# Altium footprint library Atmel_By_element14_Batch_1-00.PCBLIB: 46 footprints (part 3 of 3)
Each footprint in its own frame and in the unit in brackets; x right, y up, seen from the top. Pads: shape width x height; smd on the part's side, far side on the other; paste and mask are expansions set on the pad; w line width, h text height; cw(c..) or ccw(c..) is an arc to the next point about the centre after c.
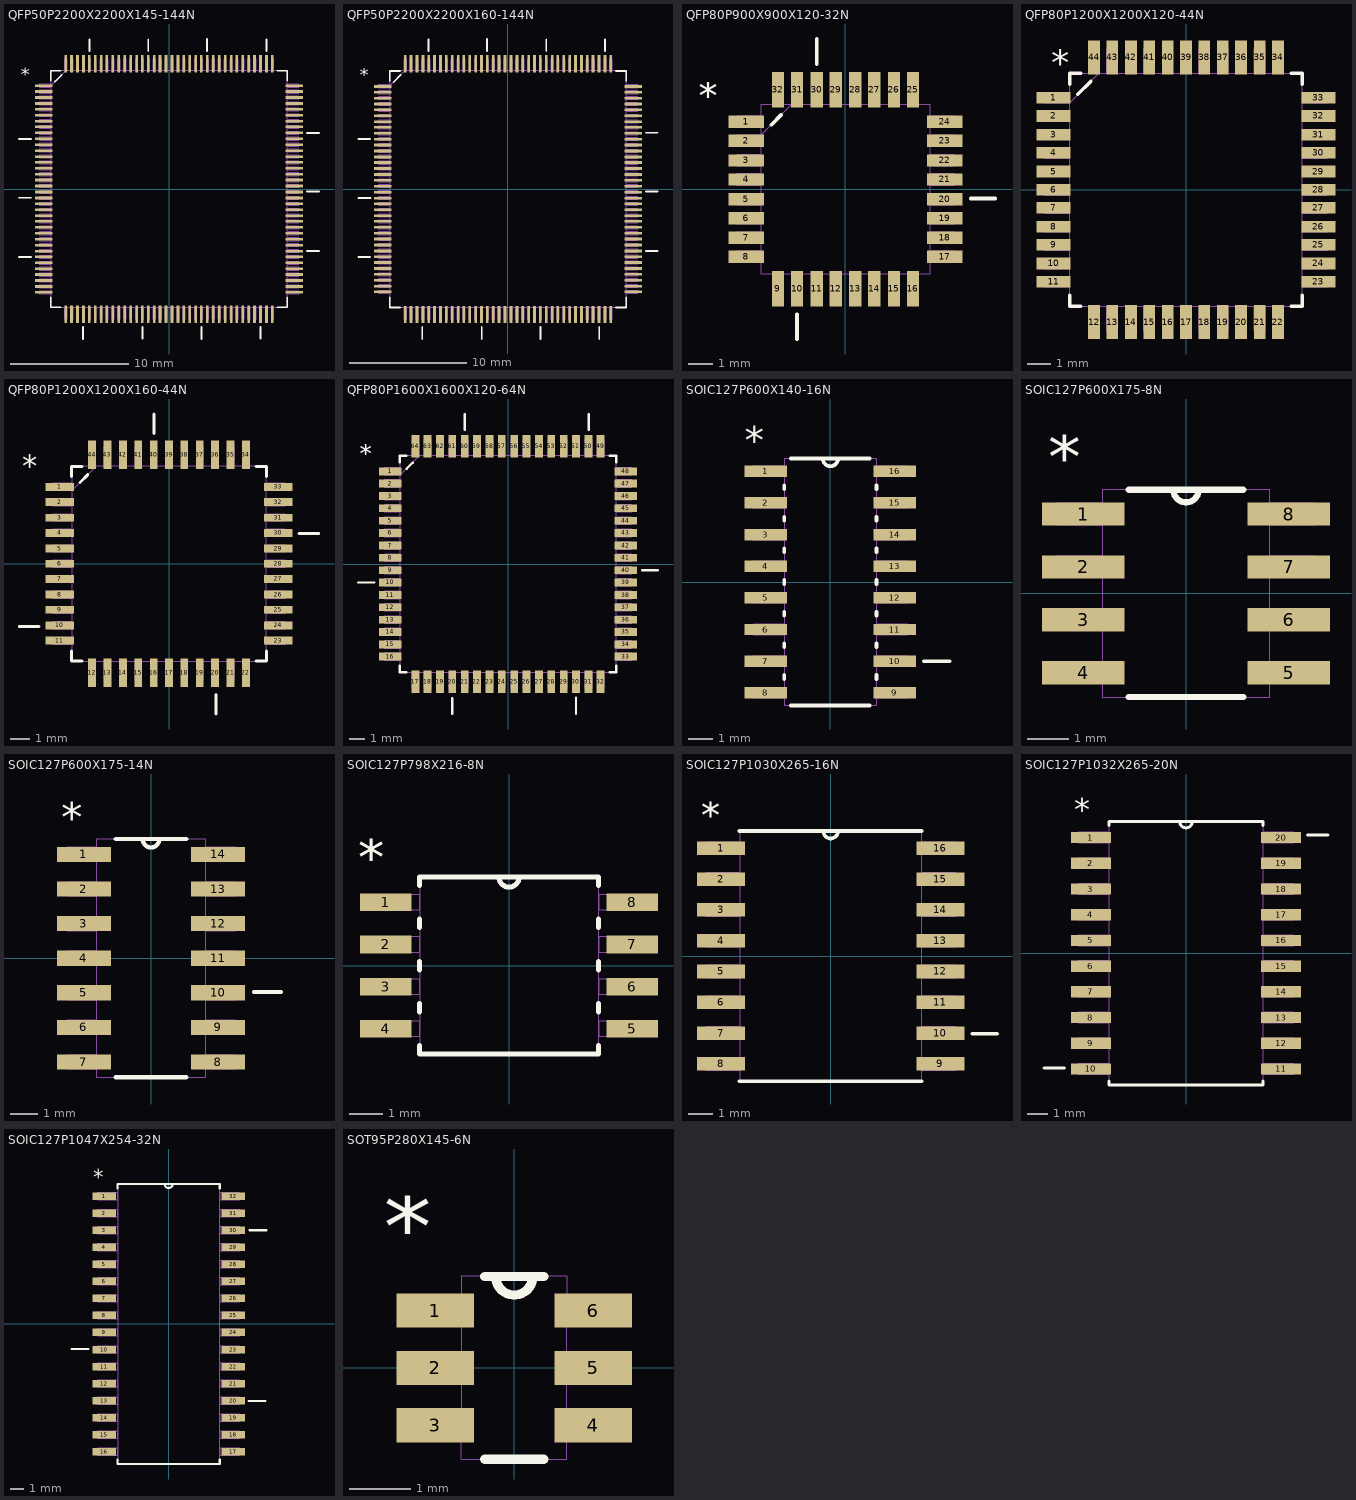
[diagram p2: the footprints below, top view; thin cyan lines are the x and y axes]

## QFP50P2200X2200X145-144N [mil]
pads (144):
  rect 58x9 smd: 1(-418,344) 2(-418,325) 3(-418,305) 4(-418,285) 5(-418,266) 6(-418,246) 7(-418,226) 8(-418,207) 9(-418,187) 10(-418,167) 11(-418,148) 12(-418,128) 13(-418,108) 14(-418,89) 15(-418,69) 16(-418,49) 17(-418,30) 18(-418,10) 19(-418,-10) 20(-418,-30) 21(-418,-49) 22(-418,-69) 23(-418,-89) 24(-418,-108) 25(-418,-128) 26(-418,-148) 27(-418,-167) 28(-418,-187) 29(-418,-207) 30(-418,-226) 31(-418,-246) 32(-418,-266) 33(-418,-285) 34(-418,-305) 35(-418,-325) 36(-418,-344) 73(418,-344) 74(418,-325) 75(418,-305) 76(418,-285) 77(418,-266) 78(418,-246) 79(418,-226) 80(418,-207) 81(418,-187) 82(418,-167) 83(418,-148) 84(418,-128) 85(418,-108) 86(418,-89) 87(418,-69) 88(418,-49) 89(418,-30) 90(418,-10) 91(418,10) 92(418,30) 93(418,49) 94(418,69) 95(418,89) 96(418,108) 97(418,128) 98(418,148) 99(418,167) 100(418,187) 101(418,207) 102(418,226) 103(418,246) 104(418,266) 105(418,285) 106(418,305) 107(418,325) 108(418,344)
  rect 9x58 smd: 37(-344,-418) 38(-325,-418) 39(-305,-418) 40(-285,-418) 41(-266,-418) 42(-246,-418) 43(-226,-418) 44(-207,-418) 45(-187,-418) 46(-167,-418) 47(-148,-418) 48(-128,-418) 49(-108,-418) 50(-89,-418) 51(-69,-418) 52(-49,-418) 53(-30,-418) 54(-10,-418) 55(10,-418) 56(30,-418) 57(49,-418) 58(69,-418) 59(89,-418) 60(108,-418) 61(128,-418) 62(148,-418) 63(167,-418) 64(187,-418) 65(207,-418) 66(226,-418) 67(246,-418) 68(266,-418) 69(285,-418) 70(305,-418) 71(325,-418) 72(344,-418) 109(344,418) 110(325,418) 111(305,418) 112(285,418) 113(266,418) 114(246,418) 115(226,418) 116(207,418) 117(187,418) 118(167,418) 119(148,418) 120(128,418) 121(108,418) 122(89,418) 123(69,418) 124(49,418) 125(30,418) 126(10,418) 127(-10,418) 128(-30,418) 129(-49,418) 130(-69,418) 131(-89,418) 132(-108,418) 133(-128,418) 134(-148,418) 135(-167,418) 136(-187,418) 137(-207,418) 138(-226,418) 139(-246,418) 140(-266,418) 141(-285,418) 142(-305,418) 143(-325,418) 144(-344,418)
Top Overlay:
  lines w6: -500,-227 -460,-227 ; -500,-29 -460,-29 ; -500,167 -460,167 ; -394,-362 -394,-394 -362,-394 ; -394,362 -394,394 -362,394 ; -380,358 -358,380 ; -287,-500 -287,-460 ; -265,459 -265,499 ; -88,-499 -88,-459 ; -69,459 -69,499 ; 108,-500 108,-460 ; 127,460 127,500 ; 305,-499 305,-459 ; 325,459 325,499 ; 362,-394 394,-394 394,-362 ; 362,394 394,394 394,362 ; 460,-207 500,-207 ; 460,-8 500,-8 ; 460,187 500,187
  text "*" at -495,344 h77.5
Mechanical 16:
  drawing of 583 lines, arcs and shapes, not listed
  text "*" at -495,344 h77.5

## QFP50P2200X2200X160-144N [mil]
pads (144):
  rect 58x9 smd: 1(-420,344) 2(-420,325) 3(-420,305) 4(-420,285) 5(-420,266) 6(-420,246) 7(-420,226) 8(-420,207) 9(-420,187) 10(-420,167) 11(-420,148) 12(-420,128) 13(-420,108) 14(-420,89) 15(-420,69) 16(-420,49) 17(-420,30) 18(-420,10) 19(-420,-10) 20(-420,-30) 21(-420,-49) 22(-420,-69) 23(-420,-89) 24(-420,-108) 25(-420,-128) 26(-420,-148) 27(-420,-167) 28(-420,-187) 29(-420,-207) 30(-420,-226) 31(-420,-246) 32(-420,-266) 33(-420,-285) 34(-420,-305) 35(-420,-325) 36(-420,-344) 73(420,-344) 74(420,-325) 75(420,-305) 76(420,-285) 77(420,-266) 78(420,-246) 79(420,-226) 80(420,-207) 81(420,-187) 82(420,-167) 83(420,-148) 84(420,-128) 85(420,-108) 86(420,-89) 87(420,-69) 88(420,-49) 89(420,-30) 90(420,-10) 91(420,10) 92(420,30) 93(420,49) 94(420,69) 95(420,89) 96(420,108) 97(420,128) 98(420,148) 99(420,167) 100(420,187) 101(420,207) 102(420,226) 103(420,246) 104(420,266) 105(420,285) 106(420,305) 107(420,325) 108(420,344)
  rect 9x58 smd: 37(-344,-420) 38(-325,-420) 39(-305,-420) 40(-285,-420) 41(-266,-420) 42(-246,-420) 43(-226,-420) 44(-207,-420) 45(-187,-420) 46(-167,-420) 47(-148,-420) 48(-128,-420) 49(-108,-420) 50(-89,-420) 51(-69,-420) 52(-49,-420) 53(-30,-420) 54(-10,-420) 55(10,-420) 56(30,-420) 57(49,-420) 58(69,-420) 59(89,-420) 60(108,-420) 61(128,-420) 62(148,-420) 63(167,-420) 64(187,-420) 65(207,-420) 66(226,-420) 67(246,-420) 68(266,-420) 69(285,-420) 70(305,-420) 71(325,-420) 72(344,-420) 109(344,420) 110(325,420) 111(305,420) 112(285,420) 113(266,420) 114(246,420) 115(226,420) 116(207,420) 117(187,420) 118(167,420) 119(148,420) 120(128,420) 121(108,420) 122(89,420) 123(69,420) 124(49,420) 125(30,420) 126(10,420) 127(-10,420) 128(-30,420) 129(-49,420) 130(-69,420) 131(-89,420) 132(-108,420) 133(-128,420) 134(-148,420) 135(-167,420) 136(-187,420) 137(-207,420) 138(-226,420) 139(-246,420) 140(-266,420) 141(-285,420) 142(-305,420) 143(-325,420) 144(-344,420)
Top Overlay:
  lines w6: -502,-227 -462,-227 ; -502,168 -462,168 ; -501,-30 -461,-30 ; -396,-362 -396,-396 -362,-396 ; -396,362 -396,396 -362,396 ; -383,359 -359,383 ; -287,-502 -287,-462 ; -266,462 -266,502 ; -88,-502 -88,-462 ; -70,463 -70,503 ; 109,-502 109,-462 ; 128,462 128,502 ; 306,-502 306,-462 ; 325,462 325,502 ; 362,-396 396,-396 396,-362 ; 362,396 396,396 396,362 ; 462,-207 502,-207 ; 462,-8 502,-8 ; 462,189 502,189
  text "*" at -497,344 h77.5
Mechanical 16:
  drawing of 583 lines, arcs and shapes, not listed
  text "*" at -497,344 h77.5

## QFP80P900X900X120-32N [mil]
pads (32):
  rect 58x20 smd: 1(-162,110) 2(-162,79) 3(-162,47) 4(-162,16) 5(-162,-16) 6(-162,-47) 7(-162,-79) 8(-162,-110) 17(162,-110) 18(162,-79) 19(162,-47) 20(162,-16) 21(162,16) 22(162,47) 23(162,79) 24(162,110)
  rect 20x58 smd: 9(-110,-162) 10(-79,-162) 11(-47,-162) 12(-16,-162) 13(16,-162) 14(47,-162) 15(79,-162) 16(110,-162) 25(110,162) 26(79,162) 27(47,162) 28(16,162) 29(-16,162) 30(-47,162) 31(-79,162) 32(-110,162)
Top Overlay:
  lines w6: -121,105 -105,121 ; -79,-244 -79,-204 ; -47,204 -47,245 ; 204,-15 244,-15
  text "*" at -239,116 h77.5
  text "*" at -239,116 h77.5
Mechanical 16:
  drawing of 169 lines, arcs and shapes, not listed
  text "*" at -239,116 h77.5
  text "*" at -239,116 h77.5

## QFP80P1200X1200X120-44N [mil]
pads (44):
  rect 58x20 smd: 1(-226,157) 2(-226,126) 3(-226,94) 4(-226,63) 5(-226,31) 6(-226,0) 7(-226,-31) 8(-226,-63) 9(-226,-94) 10(-226,-126) 11(-226,-157) 23(226,-157) 24(226,-126) 25(226,-94) 26(226,-63) 27(226,-31) 28(226,0) 29(226,31) 30(226,63) 31(226,94) 32(226,126) 33(226,157)
  rect 20x58 smd: 12(-157,-226) 13(-126,-226) 14(-94,-226) 15(-63,-226) 16(-31,-226) 17(0,-226) 18(31,-226) 19(63,-226) 20(94,-226) 21(126,-226) 22(157,-226) 34(157,226) 35(126,226) 36(94,226) 37(63,226) 38(31,226) 39(0,226) 40(-31,226) 41(-63,226) 42(-94,226) 43(-126,226) 44(-157,226)
Top Overlay:
  lines w6: -199,-180 -199,-199 -180,-199 ; -199,180 -199,199 -180,199 ; -185,163 -163,185 ; 180,-199 199,-199 199,-180 ; 180,199 199,199 199,180
  text "*" at -230,180 h77.5
Mechanical 16:
  drawing of 181 lines, arcs and shapes, not listed
3D body "ATMEGA32U4-AU.stp": height 47.24, standoff 0, extent -236.22,-236.22 236.22,236.22

## QFP80P1200X1200X160-44N [mil]
pads (44):
  rect 58x16 smd: 1(-223,157) 2(-223,126) 3(-223,94) 4(-223,63) 5(-223,31) 6(-223,0) 7(-223,-31) 8(-223,-63) 9(-223,-94) 10(-223,-126) 11(-223,-157) 23(223,-157) 24(223,-126) 25(223,-94) 26(223,-63) 27(223,-31) 28(223,0) 29(223,31) 30(223,63) 31(223,94) 32(223,126) 33(223,157)
  rect 16x58 smd: 12(-157,-223) 13(-126,-223) 14(-94,-223) 15(-63,-223) 16(-31,-223) 17(0,-223) 18(31,-223) 19(63,-223) 20(94,-223) 21(126,-223) 22(157,-223) 34(157,223) 35(126,223) 36(94,223) 37(63,223) 38(31,223) 39(0,223) 40(-31,223) 41(-63,223) 42(-94,223) 43(-126,223) 44(-157,223)
Top Overlay:
  lines w6: -306,-128 -266,-128 ; -199,-178 -199,-199 -178,-199 ; -199,178 -199,199 -178,199 ; -182,166 -166,182 ; -31,266 -31,306 ; 96,-307 96,-267 ; 178,-199 199,-199 199,-178 ; 178,199 199,199 199,178 ; 266,62 306,62
  text "*" at -300,163 h77.5
Mechanical 16:
  drawing of 181 lines, arcs and shapes, not listed
  text "*" at -300,163 h77.5

## QFP80P1600X1600X120-64N [mil]
pads (64):
  rect 58x20 smd: 1(-300,236) 2(-300,205) 3(-300,173) 4(-300,142) 5(-300,110) 6(-300,79) 7(-300,47) 8(-300,16) 9(-300,-16) 10(-300,-47) 11(-300,-79) 12(-300,-110) 13(-300,-142) 14(-300,-173) 15(-300,-205) 16(-300,-236) 33(300,-236) 34(300,-205) 35(300,-173) 36(300,-142) 37(300,-110) 38(300,-79) 39(300,-47) 40(300,-16) 41(300,16) 42(300,47) 43(300,79) 44(300,110) 45(300,142) 46(300,173) 47(300,205) 48(300,236)
  rect 20x58 smd: 17(-236,-300) 18(-205,-300) 19(-173,-300) 20(-142,-300) 21(-110,-300) 22(-79,-300) 23(-47,-300) 24(-16,-300) 25(16,-300) 26(47,-300) 27(79,-300) 28(110,-300) 29(142,-300) 30(173,-300) 31(205,-300) 32(236,-300) 49(236,300) 50(205,300) 51(173,300) 52(142,300) 53(110,300) 54(79,300) 55(47,300) 56(16,300) 57(-16,300) 58(-47,300) 59(-79,300) 60(-110,300) 61(-142,300) 62(-173,300) 63(-205,300) 64(-236,300)
Top Overlay:
  lines w6: -381,-47 -341,-47 ; -276,-259 -276,-276 -259,-276 ; -276,259 -276,276 -259,276 ; -258,243 -243,258 ; -142,-382 -142,-342 ; -110,342 -110,382 ; 173,-381 173,-341 ; 206,342 206,382 ; 259,-276 276,-276 276,-259 ; 259,276 276,276 276,259 ; 342,-16 381,-16
  text "*" at -377,242 h77.5
  text "*" at -377,242 h77.5
Mechanical 16:
  drawing of 331 lines, arcs and shapes, not listed
  text "*" at -377,242 h77.5
  text "*" at -377,242 h77.5

## SOIC127P600X140-16N [mil]
pads (16):
  rect 67x18 smd: 1(-102,175) 2(-102,125) 3(-102,75) 4(-102,25) 5(-102,-25) 6(-102,-75) 7(-102,-125) 8(-102,-175) 9(102,-175) 10(102,-125) 11(102,-75) 12(102,-25) 13(102,25) 14(102,75) 15(102,125) 16(102,175)
Top Overlay:
  lines w6: -73,-153 -73,-147 ; -73,-103 -73,-97 ; -73,-53 -73,-47 ; -73,-3 -73,3 ; -73,47 -73,53 ; -73,97 -73,103 ; -73,147 -73,153 ; -62,-195 62,-195 ; -62,195 -12,195 ; 62,195 12,195 ; 73,-153 73,-147 ; 73,-103 73,-97 ; 73,-53 73,-47 ; 73,-3 73,3 ; 73,47 73,53 ; 73,97 73,103 ; 73,147 73,153 ; 148,-125 188,-125 ; -12,195 12,195 ; -12,195 ccw(c0,195) 12,195
  text "*" at -135,188 h77.5
Mechanical 16:
  lines w0: -12,195 12,195 ; -12,195 -73,195 -73,-195 73,-195 73,195 12,195 ; -12,195 ccw(c0,195) 12,195 ; -122,-183 -122,-167 -73,-167 -73,-183 -122,-183 ; -122,-133 -122,-117 -73,-117 -73,-133 -122,-133 ; -122,-83 -122,-67 -73,-67 -73,-83 -122,-83 ; -122,-33 -122,-17 -73,-17 -73,-33 -122,-33 ; -122,17 -122,33 -73,33 -73,17 -122,17 ; -122,67 -122,83 -73,83 -73,67 -122,67 ; -122,117 -122,133 -73,133 -73,117 -122,117 ; -122,167 -122,183 -73,183 -73,167 -122,167 ; 73,-183 73,-167 122,-167 122,-183 73,-183 ; 73,-133 73,-117 122,-117 122,-133 73,-133 ; 73,-83 73,-67 122,-67 122,-83 73,-83 ; 73,-33 73,-17 122,-17 122,-33 73,-33 ; 73,17 73,33 122,33 122,17 73,17 ; 73,67 73,83 122,83 122,67 73,67 ; 73,117 73,133 122,133 122,117 73,117 ; 73,167 73,183 122,183 122,167 73,167
  text "*" at -135,188 h77.5

## SOIC127P600X175-8N [mil]
pads (8):
  rect 78x22 smd: 1(-97,75) 2(-97,25) 3(-97,-25) 4(-97,-75) 5(97,-75) 6(97,-25) 7(97,25) 8(97,75)
Top Overlay:
  lines w6: -54,-98 54,-98 ; -54,98 -12,98 ; 54,98 12,98 ; -12,98 12,98 ; -12,98 ccw(c0,98) 12,98
  text "*" at -130,92 h77.5
Mechanical 16:
  lines w0: -12,98 12,98 ; -12,98 -79,98 -79,-98 79,-98 79,98 12,98 ; -12,98 ccw(c0,98) 12,98 ; -122,-85 -122,-65 -79,-65 -79,-85 -122,-85 ; -122,-35 -122,-15 -79,-15 -79,-35 -122,-35 ; -122,15 -122,35 -79,35 -79,15 -122,15 ; -122,65 -122,85 -79,85 -79,65 -122,65 ; 79,-85 79,-65 122,-65 122,-85 79,-85 ; 79,-35 79,-15 122,-15 122,-35 79,-35 ; 79,15 79,35 122,35 122,15 79,15 ; 79,65 79,85 122,85 122,65 79,65
  text "*" at -130,92 h77.5

## SOIC127P600X175-14N [mil]
pads (14):
  rect 78x22 smd: 1(-97,150) 2(-97,100) 3(-97,50) 4(-97,0) 5(-97,-50) 6(-97,-100) 7(-97,-150) 8(97,-150) 9(97,-100) 10(97,-50) 11(97,0) 12(97,50) 13(97,100) 14(97,150)
Top Overlay:
  lines w6: -51,-172 51,-172 ; -51,172 -12,172 ; 51,172 12,172 ; 149,-49 188,-49 ; -12,172 12,172 ; -12,172 ccw(c0,172) 12,172
  text "*" at -130,167 h77.5
Mechanical 16:
  lines w0: -12,172 12,172 ; -12,172 -79,172 -79,-172 79,-172 79,172 12,172 ; -12,172 ccw(c0,172) 12,172 ; -122,-160 -122,-140 -79,-140 -79,-160 -122,-160 ; -122,-110 -122,-90 -79,-90 -79,-110 -122,-110 ; -122,-60 -122,-40 -79,-40 -79,-60 -122,-60 ; -122,-10 -122,10 -79,10 -79,-10 -122,-10 ; -122,40 -122,60 -79,60 -79,40 -122,40 ; -122,90 -122,110 -79,110 -79,90 -122,90 ; -122,140 -122,160 -79,160 -79,140 -122,140 ; 79,-160 79,-140 122,-140 122,-160 79,-160 ; 79,-110 79,-90 122,-90 122,-110 79,-110 ; 79,-60 79,-40 122,-40 122,-60 79,-60 ; 79,-10 79,10 122,10 122,-10 79,-10 ; 79,40 79,60 122,60 122,40 79,40 ; 79,90 79,110 122,110 122,90 79,90 ; 79,140 79,160 122,160 122,140 79,140
  text "*" at -130,167 h77.5

## SOIC127P798X216-8N [mil]
pads (8):
  rect 61x21 smd: 1(-146,75) 2(-146,25) 3(-146,-25) 4(-146,-75) 5(146,-75) 6(146,-25) 7(146,25) 8(146,75)
Top Overlay:
  lines w6: -106,-95 -106,-105 106,-105 106,-95 ; -106,-55 -106,-45 ; -106,-5 -106,5 ; -106,45 -106,55 ; -106,95 -106,105 -12,105 ; 106,-55 106,-45 ; 106,-5 106,5 ; 106,45 106,55 ; 106,95 106,105 12,105 ; -12,105 12,105 ; -12,105 ccw(c0,105) 12,105 ; -12,105 ccw(c0,105) 12,105
  text "*" at -179,91 h77.5
  text "*" at -179,91 h77.5
Mechanical 16:
  lines w0: -12,105 12,105 ; -12,105 -106,105 -106,-105 106,-105 106,105 12,105 ; -12,105 ccw(c0,105) 12,105 ; -12,105 ccw(c0,105) 12,105 ; -163,-84 -163,-66 -106,-66 -106,-84 -163,-84 ; -163,-34 -163,-16 -106,-16 -106,-34 -163,-34 ; -163,16 -163,34 -106,34 -106,16 -163,16 ; -163,66 -163,84 -106,84 -106,66 -163,66 ; 106,-84 106,-66 163,-66 163,-84 106,-84 ; 106,-34 106,-16 163,-16 163,-34 106,-34 ; 106,16 106,34 163,34 163,16 106,16 ; 106,66 106,84 163,84 163,66 106,66
  text "*" at -179,91 h77.5
  text "*" at -179,91 h77.5

## SOIC127P1030X265-16N [mil]
pads (16):
  rect 78x22 smd: 1(-178,175) 2(-178,125) 3(-178,75) 4(-178,25) 5(-178,-25) 6(-178,-75) 7(-178,-125) 8(-178,-175) 9(178,-175) 10(178,-125) 11(178,-75) 12(178,-25) 13(178,25) 14(178,75) 15(178,125) 16(178,175)
Top Overlay:
  lines w6: -148,-203 148,-203 ; -148,203 -12,203 ; 148,203 12,203 ; 230,-126 270,-126 ; -12,203 12,203 ; -12,203 ccw(c0,203) 12,203 ; -12,203 ccw(c0,203) 12,203
  text "*" at -210,192 h77.5
  text "*" at -210,192 h77.5
Mechanical 16:
  lines w0: -12,203 12,203 ; -12,203 -148,203 -148,-203 148,-203 148,203 12,203 ; -12,203 ccw(c0,203) 12,203 ; -12,203 ccw(c0,203) 12,203 ; -203,-185 -203,-165 -148,-165 -148,-185 -203,-185 ; -203,-135 -203,-115 -148,-115 -148,-135 -203,-135 ; -203,-85 -203,-65 -148,-65 -148,-85 -203,-85 ; -203,-35 -203,-15 -148,-15 -148,-35 -203,-35 ; -203,15 -203,35 -148,35 -148,15 -203,15 ; -203,65 -203,85 -148,85 -148,65 -203,65 ; -203,115 -203,135 -148,135 -148,115 -203,115 ; -203,165 -203,185 -148,185 -148,165 -203,165 ; 148,-185 148,-165 203,-165 203,-185 148,-185 ; 148,-135 148,-115 203,-115 203,-135 148,-135 ; 148,-85 148,-65 203,-65 203,-85 148,-85 ; 148,-35 148,-15 203,-15 203,-35 148,-35 ; 148,15 148,35 203,35 203,15 148,15 ; 148,65 148,85 203,85 203,65 148,65 ; 148,115 148,135 203,135 203,115 148,115 ; 148,165 148,185 203,185 203,165 148,165
  text "*" at -210,192 h77.5
  text "*" at -210,192 h77.5

## SOIC127P1032X265-20N [mil]
pads (20):
  rect 78x22 smd: 1(-185,225) 2(-185,175) 3(-185,125) 4(-185,75) 5(-185,25) 6(-185,-25) 7(-185,-75) 8(-185,-125) 9(-185,-175) 10(-185,-225) 11(185,-225) 12(185,-175) 13(185,-125) 14(185,-75) 15(185,-25) 16(185,25) 17(185,75) 18(185,125) 19(185,175) 20(185,225)
Top Overlay:
  lines w6: -276,-223 -236,-223 ; -150,-249 -150,-256 150,-256 150,-249 ; -150,249 -150,256 -12,256 ; 150,249 150,256 12,256 ; 236,230 276,230 ; -12,256 12,256 ; -12,256 ccw(c0,256) 12,256
  text "*" at -217,242 h77.5
Mechanical 16:
  lines w0: -12,256 12,256 ; -12,256 -150,256 -150,-256 150,-256 150,256 12,256 ; -12,256 ccw(c0,256) 12,256 ; -210,-235 -210,-215 -150,-215 -150,-235 -210,-235 ; -210,-185 -210,-165 -150,-165 -150,-185 -210,-185 ; -210,-135 -210,-115 -150,-115 -150,-135 -210,-135 ; -210,-85 -210,-65 -150,-65 -150,-85 -210,-85 ; -210,-35 -210,-15 -150,-15 -150,-35 -210,-35 ; -210,15 -210,35 -150,35 -150,15 -210,15 ; -210,65 -210,85 -150,85 -150,65 -210,65 ; -210,115 -210,135 -150,135 -150,115 -210,115 ; -210,165 -210,185 -150,185 -150,165 -210,165 ; -210,215 -210,235 -150,235 -150,215 -210,215 ; 150,-235 150,-215 210,-215 210,-235 150,-235 ; 150,-185 150,-165 210,-165 210,-185 150,-185 ; 150,-135 150,-115 210,-115 210,-135 150,-135 ; 150,-85 150,-65 210,-65 210,-85 150,-85 ; 150,-35 150,-15 210,-15 210,-35 150,-35 ; 150,15 150,35 210,35 210,15 150,15 ; 150,65 150,85 210,85 210,65 150,65 ; 150,115 150,135 210,135 210,115 150,115 ; 150,165 150,185 210,185 210,165 150,165 ; 150,215 150,235 210,235 210,215 150,215
  text "*" at -217,242 h77.5

## SOIC127P1047X254-32N [mil]
pads (32):
  rect 69x22 smd: 1(-189,375) 2(-189,325) 3(-189,275) 4(-189,225) 5(-189,175) 6(-189,125) 7(-189,75) 8(-189,25) 9(-189,-25) 10(-189,-75) 11(-189,-125) 12(-189,-175) 13(-189,-225) 14(-189,-275) 15(-189,-325) 16(-189,-375) 17(189,-375) 18(189,-325) 19(189,-275) 20(189,-225) 21(189,-175) 22(189,-125) 23(189,-75) 24(189,-25) 25(189,25) 26(189,75) 27(189,125) 28(189,175) 29(189,225) 30(189,275) 31(189,325) 32(189,375)
Top Overlay:
  lines w6: -285,-73 -236,-73 ; -150,-398 -150,-411 150,-411 150,-398 ; -150,398 -150,411 -12,411 ; 150,398 150,411 12,411 ; 234,-226 284,-226 ; 237,275 287,275 ; -12,411 12,411 ; -12,411 ccw(c0,411) 12,411
  text "*" at -222,392 h77.5
Mechanical 16:
  lines w0: -12,411 12,411 ; -12,411 -150,411 -150,-411 150,-411 150,411 12,411 ; -12,411 ccw(c0,411) 12,411 ; -209,-385 -209,-365 -150,-365 -150,-385 -209,-385 ; -209,-335 -209,-315 -150,-315 -150,-335 -209,-335 ; -209,-285 -209,-265 -150,-265 -150,-285 -209,-285 ; -209,-235 -209,-215 -150,-215 -150,-235 -209,-235 ; -209,-185 -209,-165 -150,-165 -150,-185 -209,-185 ; -209,-135 -209,-115 -150,-115 -150,-135 -209,-135 ; -209,-85 -209,-65 -150,-65 -150,-85 -209,-85 ; -209,-35 -209,-15 -150,-15 -150,-35 -209,-35 ; -209,15 -209,35 -150,35 -150,15 -209,15 ; -209,65 -209,85 -150,85 -150,65 -209,65 ; -209,115 -209,135 -150,135 -150,115 -209,115 ; -209,165 -209,185 -150,185 -150,165 -209,165 ; -209,215 -209,235 -150,235 -150,215 -209,215 ; -209,265 -209,285 -150,285 -150,265 -209,265 ; -209,315 -209,335 -150,335 -150,315 -209,315 ; -209,365 -209,385 -150,385 -150,365 -209,365 ; 150,-385 150,-365 209,-365 209,-385 150,-385 ; 150,-335 150,-315 209,-315 209,-335 150,-335 ; 150,-285 150,-265 209,-265 209,-285 150,-285 ; 150,-235 150,-215 209,-215 209,-235 150,-235 ; 150,-185 150,-165 209,-165 209,-185 150,-185 ; 150,-135 150,-115 209,-115 209,-135 150,-135 ; 150,-85 150,-65 209,-65 209,-85 150,-85 ; 150,-35 150,-15 209,-15 209,-35 150,-35 ; 150,15 150,35 209,35 209,15 150,15 ; 150,65 150,85 209,85 209,65 150,65 ; 150,115 150,135 209,135 209,115 150,115 ; 150,165 150,185 209,185 209,165 150,165 ; 150,215 150,235 209,235 209,215 150,215 ; 150,265 150,285 209,285 209,265 150,265 ; 150,315 150,335 209,335 209,315 150,315 ; 150,365 150,385 209,385 209,365 150,365
  text "*" at -222,392 h77.5

## SOT95P280X145-6N [mil]
pads (6):
  rect 50x22 smd: 1(-51,37) 2(-51,0) 3(-51,-37) 4(51,-37) 5(51,0) 6(51,37)
Top Overlay:
  lines w6: -19,-59 19,-59 ; -19,59 -12,59 ; 19,59 12,59 ; -12,59 12,59 ; -12,59 ccw(c0,59) 12,59
  text "*" at -84,54 h77.5
Mechanical 16:
  lines w0: -34,-47 -34,-59 34,-59 34,-47 ; -34,-47 -34,-28 ; -34,-47 -59,-47 -59,-28 -34,-28 ; -34,-28 -34,-10 ; -34,-10 -34,10 ; -34,-10 -59,-10 -59,10 -34,10 ; -34,10 -34,28 ; -34,28 -34,47 ; -34,28 -59,28 -59,47 -34,47 ; -34,47 -34,59 -12,59 ; -12,59 12,59 ; -12,59 ccw(c0,59) 12,59 ; 12,59 34,59 34,47 ; 34,-47 34,-28 ; 34,-47 59,-47 59,-28 34,-28 ; 34,-28 34,-10 ; 34,-10 34,10 ; 34,-10 59,-10 59,10 34,10 ; 34,10 34,28 ; 34,28 34,47 ; 34,28 59,28 59,47 34,47
  text "*" at -84,54 h77.5